# Altium footprint library Allwinner.PcbLib: 3 footprints
Each footprint in its own frame and in the unit in brackets; x right, y up, seen from the top. Pads: shape width x height; smd on the part's side, far side on the other; paste and mask are expansions set on the pad; w line width, h text height; cw(c..) or ccw(c..) is an arc to the next point about the centre after c.
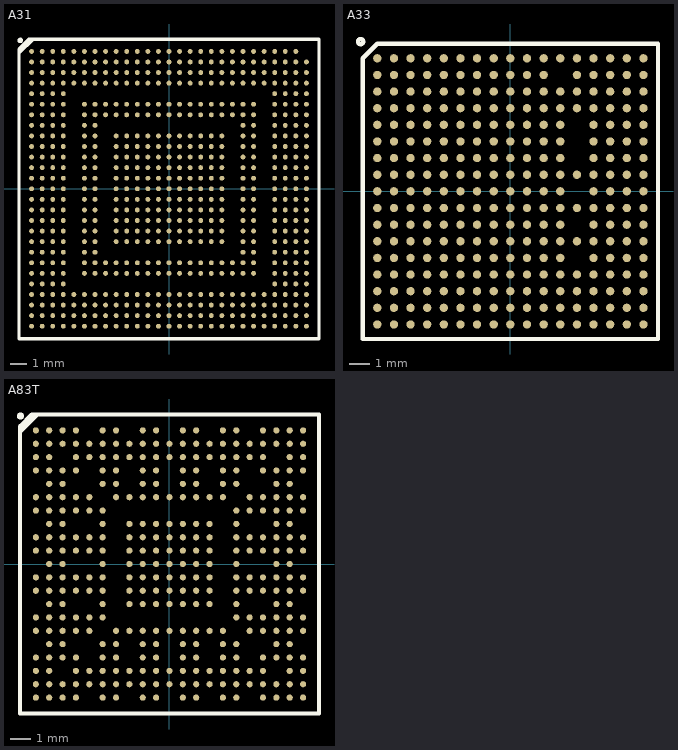
[diagram p0: the footprints below, top view; thin cyan lines are the x and y axes]

## A31 [mm]
pads (608):
  round 0.3 smd: A1(-8.45,8.45) A2(-7.8,8.45) A3(-7.15,8.45) A4(-6.5,8.45) A5(-5.85,8.45) A6(-5.2,8.45) A7(-4.55,8.45) A8(-3.9,8.45) A9(-3.25,8.45) A10(-2.6,8.45) A11(-1.95,8.45) A12(-1.3,8.45) A13(-0.65,8.45) A14(0,8.45) A15(0.65,8.45) A16(1.3,8.45) A17(1.95,8.45) A18(2.6,8.45) A19(3.25,8.45) A20(3.9,8.45) A21(4.55,8.45) A22(5.2,8.45) A23(5.85,8.45) A24(6.5,8.45) A25(7.15,8.45) A26(7.8,8.45) AA1(-8.45,-4.55) AA2(-7.8,-4.55) AA3(-7.15,-4.55) AA4(-6.5,-4.55) AA6(-5.2,-4.55) AA7(-4.55,-4.55) AA8(-3.9,-4.55) AA9(-3.25,-4.55) AA10(-2.6,-4.55) AA11(-1.95,-4.55) AA12(-1.3,-4.55) AA13(-0.65,-4.55) AA14(0,-4.55) AA15(0.65,-4.55) AA16(1.3,-4.55) AA17(1.95,-4.55) AA18(2.6,-4.55) AA19(3.25,-4.55) AA20(3.9,-4.55) AA21(4.55,-4.55) AA22(5.2,-4.55) AA24(6.5,-4.55) AA25(7.15,-4.55) AA26(7.8,-4.55) AA27(8.45,-4.55) AB1(-8.45,-5.2) AB2(-7.8,-5.2) AB3(-7.15,-5.2) AB4(-6.5,-5.2) AB6(-5.2,-5.2) AB7(-4.55,-5.2) AB8(-3.9,-5.2) AB9(-3.25,-5.2) AB10(-2.6,-5.2) AB11(-1.95,-5.2) AB12(-1.3,-5.2) AB13(-0.65,-5.2) AB14(0,-5.2) AB15(0.65,-5.2) AB16(1.3,-5.2) AB17(1.95,-5.2) AB18(2.6,-5.2) AB19(3.25,-5.2) AB20(3.9,-5.2) AB21(4.55,-5.2) AB22(5.2,-5.2) AB24(6.5,-5.2) AB25(7.15,-5.2) AB26(7.8,-5.2) AB27(8.45,-5.2) AC1(-8.45,-5.85) AC2(-7.8,-5.85) AC3(-7.15,-5.85) AC4(-6.5,-5.85) AC24(6.5,-5.85) AC25(7.15,-5.85) AC26(7.8,-5.85) AC27(8.45,-5.85) AD1(-8.45,-6.5) AD2(-7.8,-6.5) AD3(-7.15,-6.5) AD4(-6.5,-6.5) AD5(-5.85,-6.5) AD6(-5.2,-6.5) AD7(-4.55,-6.5) AD8(-3.9,-6.5) AD9(-3.25,-6.5) AD10(-2.6,-6.5) AD11(-1.95,-6.5) AD12(-1.3,-6.5) AD13(-0.65,-6.5) AD14(0,-6.5) AD15(0.65,-6.5) AD16(1.3,-6.5) AD17(1.95,-6.5) AD18(2.6,-6.5) AD19(3.25,-6.5) AD20(3.9,-6.5) AD21(4.55,-6.5) AD22(5.2,-6.5) AD23(5.85,-6.5) AD24(6.5,-6.5) AD25(7.15,-6.5) AD26(7.8,-6.5) AD27(8.45,-6.5) AE1(-8.45,-7.15) AE2(-7.8,-7.15) AE3(-7.15,-7.15) AE4(-6.5,-7.15) AE5(-5.85,-7.15) AE6(-5.2,-7.15) AE7(-4.55,-7.15) AE8(-3.9,-7.15) AE9(-3.25,-7.15) AE10(-2.6,-7.15) AE11(-1.95,-7.15) AE12(-1.3,-7.15) AE13(-0.65,-7.15) AE14(0,-7.15) AE15(0.65,-7.15) AE16(1.3,-7.15) AE17(1.95,-7.15) AE18(2.6,-7.15) AE19(3.25,-7.15) AE20(3.9,-7.15) AE21(4.55,-7.15) AE22(5.2,-7.15) AE23(5.85,-7.15) AE24(6.5,-7.15) AE25(7.15,-7.15) AE26(7.8,-7.15) AE27(8.45,-7.15) AF1(-8.45,-7.8) AF2(-7.8,-7.8) AF3(-7.15,-7.8) AF4(-6.5,-7.8) AF5(-5.85,-7.8) AF6(-5.2,-7.8) AF7(-4.55,-7.8) AF8(-3.9,-7.8) AF9(-3.25,-7.8) AF10(-2.6,-7.8) AF11(-1.95,-7.8) AF12(-1.3,-7.8) AF13(-0.65,-7.8) AF14(0,-7.8) AF15(0.65,-7.8) AF16(1.3,-7.8) AF17(1.95,-7.8) AF18(2.6,-7.8) AF19(3.25,-7.8) AF20(3.9,-7.8) AF21(4.55,-7.8) AF22(5.2,-7.8) AF23(5.85,-7.8) AF24(6.5,-7.8) AF25(7.15,-7.8) AF26(7.8,-7.8) AF27(8.45,-7.8) AG1(-8.45,-8.45) AG2(-7.8,-8.45) AG3(-7.15,-8.45) AG4(-6.5,-8.45) AG5(-5.85,-8.45) AG6(-5.2,-8.45) AG7(-4.55,-8.45) AG8(-3.9,-8.45) AG9(-3.25,-8.45) AG10(-2.6,-8.45) AG11(-1.95,-8.45) AG12(-1.3,-8.45) AG13(-0.65,-8.45) AG14(0,-8.45) AG15(0.65,-8.45) AG16(1.3,-8.45) AG17(1.95,-8.45) AG18(2.6,-8.45) AG19(3.25,-8.45) AG20(3.9,-8.45) AG21(4.55,-8.45) AG22(5.2,-8.45) AG23(5.85,-8.45) AG24(6.5,-8.45) AG25(7.15,-8.45) AG26(7.8,-8.45) AG27(8.45,-8.45) B1(-8.45,7.8) B2(-7.8,7.8) B3(-7.15,7.8) B4(-6.5,7.8) B5(-5.85,7.8) B6(-5.2,7.8) B7(-4.55,7.8) B8(-3.9,7.8) B9(-3.25,7.8) B10(-2.6,7.8) B11(-1.95,7.8) B12(-1.3,7.8) B13(-0.65,7.8) B14(0,7.8) B15(0.65,7.8) B16(1.3,7.8) B17(1.95,7.8) B18(2.6,7.8) B19(3.25,7.8) B20(3.9,7.8) B21(4.55,7.8) B22(5.2,7.8) B23(5.85,7.8) B24(6.5,7.8) B25(7.15,7.8) B26(7.8,7.8) B27(8.45,7.8) C1(-8.45,7.15) C2(-7.8,7.15) C3(-7.15,7.15) C4(-6.5,7.15) C5(-5.85,7.15) C6(-5.2,7.15) C7(-4.55,7.15) C8(-3.9,7.15) C9(-3.25,7.15) C10(-2.6,7.15) C11(-1.95,7.15) C12(-1.3,7.15) C13(-0.65,7.15) C14(0,7.15) C15(0.65,7.15) C16(1.3,7.15) C17(1.95,7.15) C18(2.6,7.15) C19(3.25,7.15) C20(3.9,7.15) C21(4.55,7.15) C22(5.2,7.15) C23(5.85,7.15) C24(6.5,7.15) C25(7.15,7.15) C26(7.8,7.15) C27(8.45,7.15) D1(-8.45,6.5) D2(-7.8,6.5) D3(-7.15,6.5) D4(-6.5,6.5) D5(-5.85,6.5) D6(-5.2,6.5) D7(-4.55,6.5) D8(-3.9,6.5) D9(-3.25,6.5) D10(-2.6,6.5) D11(-1.95,6.5) D12(-1.3,6.5) D13(-0.65,6.5) D14(0,6.5) D15(0.65,6.5) D16(1.3,6.5) D17(1.95,6.5) D18(2.6,6.5) D19(3.25,6.5) D20(3.9,6.5) D21(4.55,6.5) D22(5.2,6.5) D23(5.85,6.5) D24(6.5,6.5) D25(7.15,6.5) D26(7.8,6.5) D27(8.45,6.5) E1(-8.45,5.85) E2(-7.8,5.85) E3(-7.15,5.85) E4(-6.5,5.85) E24(6.5,5.85) E25(7.15,5.85) E26(7.8,5.85) E27(8.45,5.85) F1(-8.45,5.2) F2(-7.8,5.2) F3(-7.15,5.2) F4(-6.5,5.2) F6(-5.2,5.2) F7(-4.55,5.2) F8(-3.9,5.2) F9(-3.25,5.2) F10(-2.6,5.2) F11(-1.95,5.2) F12(-1.3,5.2) F13(-0.65,5.2) F14(0,5.2) F15(0.65,5.2) F16(1.3,5.2) F17(1.95,5.2) F18(2.6,5.2) F19(3.25,5.2) F20(3.9,5.2) F21(4.55,5.2) F22(5.2,5.2) F24(6.5,5.2) F25(7.15,5.2) F26(7.8,5.2) F27(8.45,5.2) G1(-8.45,4.55) G2(-7.8,4.55) G3(-7.15,4.55) G4(-6.5,4.55) G6(-5.2,4.55) G7(-4.55,4.55) G8(-3.9,4.55) G9(-3.25,4.55) G10(-2.6,4.55) G11(-1.95,4.55) G12(-1.3,4.55) G13(-0.65,4.55) G14(0,4.55) G15(0.65,4.55) G16(1.3,4.55) G17(1.95,4.55) G18(2.6,4.55) G19(3.25,4.55) G20(3.9,4.55) G21(4.55,4.55) G22(5.2,4.55) G24(6.5,4.55) G25(7.15,4.55) G26(7.8,4.55) G27(8.45,4.55) H1(-8.45,3.9) H2(-7.8,3.9) H3(-7.15,3.9) H4(-6.5,3.9) H6(-5.2,3.9) H7(-4.55,3.9) H21(4.55,3.9) H22(5.2,3.9) H24(6.5,3.9) H25(7.15,3.9) H26(7.8,3.9) H27(8.45,3.9) J1(-8.45,3.25) J2(-7.8,3.25) J3(-7.15,3.25) J4(-6.5,3.25) J6(-5.2,3.25) J7(-4.55,3.25) J9(-3.25,3.25) J10(-2.6,3.25) J11(-1.95,3.25) J12(-1.3,3.25) J13(-0.65,3.25) J14(0,3.25) J15(0.65,3.25) J16(1.3,3.25) J17(1.95,3.25) J18(2.6,3.25) J19(3.25,3.25) J21(4.55,3.25) J22(5.2,3.25) J24(6.5,3.25) J25(7.15,3.25) J26(7.8,3.25) J27(8.45,3.25) K1(-8.45,2.6) K2(-7.8,2.6) K3(-7.15,2.6) K4(-6.5,2.6) K6(-5.2,2.6) K7(-4.55,2.6) K9(-3.25,2.6) K10(-2.6,2.6) K11(-1.95,2.6) K12(-1.3,2.6) K13(-0.65,2.6) K14(0,2.6) K15(0.65,2.6) K16(1.3,2.6) K17(1.95,2.6) K18(2.6,2.6) K19(3.25,2.6) K21(4.55,2.6) K22(5.2,2.6) K24(6.5,2.6) K25(7.15,2.6) K26(7.8,2.6) K27(8.45,2.6) L1(-8.45,1.95) L2(-7.8,1.95) L3(-7.15,1.95) L4(-6.5,1.95) L6(-5.2,1.95) L7(-4.55,1.95) L9(-3.25,1.95) L10(-2.6,1.95) L11(-1.95,1.95) L12(-1.3,1.95) L13(-0.65,1.95) L14(0,1.95) L15(0.65,1.95) L16(1.3,1.95) L17(1.95,1.95) L18(2.6,1.95) L19(3.25,1.95) L21(4.55,1.95) L22(5.2,1.95) L24(6.5,1.95) L25(7.15,1.95) L26(7.8,1.95) L27(8.45,1.95) M1(-8.45,1.3) M2(-7.8,1.3) M3(-7.15,1.3) M4(-6.5,1.3) M6(-5.2,1.3) M7(-4.55,1.3) M9(-3.25,1.3) M10(-2.6,1.3) M11(-1.95,1.3) M12(-1.3,1.3) M13(-0.65,1.3) M14(0,1.3) M15(0.65,1.3) M16(1.3,1.3) M17(1.95,1.3) M18(2.6,1.3) M19(3.25,1.3) M21(4.55,1.3) M22(5.2,1.3) M24(6.5,1.3) M25(7.15,1.3) M26(7.8,1.3) M27(8.45,1.3) N1(-8.45,0.65) N2(-7.8,0.65) N3(-7.15,0.65) N4(-6.5,0.65) N6(-5.2,0.65) N7(-4.55,0.65) N9(-3.25,0.65) N10(-2.6,0.65) N11(-1.95,0.65) N12(-1.3,0.65) N13(-0.65,0.65) N14(0,0.65) N15(0.65,0.65) N16(1.3,0.65) N17(1.95,0.65) N18(2.6,0.65) N19(3.25,0.65) N21(4.55,0.65) N22(5.2,0.65) N24(6.5,0.65) N25(7.15,0.65) N26(7.8,0.65) N27(8.45,0.65) P1(-8.45,0) P2(-7.8,0) P3(-7.15,0) P4(-6.5,0) P6(-5.2,0) P7(-4.55,0) P9(-3.25,0) P10(-2.6,0) P11(-1.95,0) P12(-1.3,0) P13(-0.65,0) P14(0,0) P15(0.65,0) P16(1.3,0) P17(1.95,0) P18(2.6,0) P19(3.25,0) P21(4.55,0) P22(5.2,0) P24(6.5,0) P25(7.15,0) P26(7.8,0) P27(8.45,0) R1(-8.45,-0.65) R2(-7.8,-0.65) R3(-7.15,-0.65) R4(-6.5,-0.65) R6(-5.2,-0.65) R7(-4.55,-0.65) R9(-3.25,-0.65) R10(-2.6,-0.65) R11(-1.95,-0.65) R12(-1.3,-0.65) R13(-0.65,-0.65) R14(0,-0.65) R15(0.65,-0.65) R16(1.3,-0.65) R17(1.95,-0.65) R18(2.6,-0.65) R19(3.25,-0.65) R21(4.55,-0.65) R22(5.2,-0.65) R24(6.5,-0.65) R25(7.15,-0.65) R26(7.8,-0.65) R27(8.45,-0.65) T1(-8.45,-1.3) T2(-7.8,-1.3) T3(-7.15,-1.3) T4(-6.5,-1.3) T6(-5.2,-1.3) T7(-4.55,-1.3) T9(-3.25,-1.3) T10(-2.6,-1.3) T11(-1.95,-1.3) T12(-1.3,-1.3) T13(-0.65,-1.3) T14(0,-1.3) T15(0.65,-1.3) T16(1.3,-1.3) T17(1.95,-1.3) T18(2.6,-1.3) T19(3.25,-1.3) T21(4.55,-1.3) T22(5.2,-1.3) T24(6.5,-1.3) T25(7.15,-1.3) T26(7.8,-1.3) T27(8.45,-1.3) U1(-8.45,-1.95) U2(-7.8,-1.95) U3(-7.15,-1.95) U4(-6.5,-1.95) U6(-5.2,-1.95) U7(-4.55,-1.95) U9(-3.25,-1.95) U10(-2.6,-1.95) U11(-1.95,-1.95) U12(-1.3,-1.95) U13(-0.65,-1.95) U14(0,-1.95) U15(0.65,-1.95) U16(1.3,-1.95) U17(1.95,-1.95) U18(2.6,-1.95) U19(3.25,-1.95) U21(4.55,-1.95) U22(5.2,-1.95) U24(6.5,-1.95) U25(7.15,-1.95) U26(7.8,-1.95) U27(8.45,-1.95) V1(-8.45,-2.6) V2(-7.8,-2.6) V3(-7.15,-2.6) V4(-6.5,-2.6) V6(-5.2,-2.6) V7(-4.55,-2.6) V9(-3.25,-2.6) V10(-2.6,-2.6) V11(-1.95,-2.6) V12(-1.3,-2.6) V13(-0.65,-2.6) V14(0,-2.6) V15(0.65,-2.6) V16(1.3,-2.6) V17(1.95,-2.6) V18(2.6,-2.6) V19(3.25,-2.6) V21(4.55,-2.6) V22(5.2,-2.6) V24(6.5,-2.6) V25(7.15,-2.6) V26(7.8,-2.6) V27(8.45,-2.6) W1(-8.45,-3.25) W2(-7.8,-3.25) W3(-7.15,-3.25) W4(-6.5,-3.25) W6(-5.2,-3.25) W7(-4.55,-3.25) W9(-3.25,-3.25) W10(-2.6,-3.25) W11(-1.95,-3.25) W12(-1.3,-3.25) W13(-0.65,-3.25) W14(0,-3.25) W15(0.65,-3.25) W16(1.3,-3.25) W17(1.95,-3.25) W18(2.6,-3.25) W19(3.25,-3.25) W21(4.55,-3.25) W22(5.2,-3.25) W24(6.5,-3.25) W25(7.15,-3.25) W26(7.8,-3.25) W27(8.45,-3.25) Y1(-8.45,-3.9) Y2(-7.8,-3.9) Y3(-7.15,-3.9) Y4(-6.5,-3.9) Y6(-5.2,-3.9) Y7(-4.55,-3.9) Y21(4.55,-3.9) Y22(5.2,-3.9) Y24(6.5,-3.9) Y25(7.15,-3.9) Y26(7.8,-3.9) Y27(8.45,-3.9)
Top Overlay:
  circle w0.2: c-9.15,9.125 r0.071
  lines w0.2: -9.225,8.6 -9.225,-9.225 9.225,-9.225 9.225,9.2 -8.625,9.2 -9.2,8.625 ; -9.2,8.35 -8.35,9.2
3D body: height 1.2, standoff 0, extent -9.1,-9.1 9.1,9.1

## A33 [mm]
pads (282):
  round 0.4 smd: A1(-6.4,6.4) A2(-5.6,6.4) A3(-4.8,6.4) A4(-4,6.4) A5(-3.2,6.4) A6(-2.4,6.4) A7(-1.6,6.4) A8(-0.8,6.4) A9(0,6.4) A10(0.8,6.4) A11(1.6,6.4) A12(2.4,6.4) A13(3.2,6.4) A14(4,6.4) A15(4.8,6.4) A16(5.6,6.4) A17(6.4,6.4) B1(-6.4,5.6) B2(-5.6,5.6) B3(-4.8,5.6) B4(-4,5.6) B5(-3.2,5.6) B6(-2.4,5.6) B7(-1.6,5.6) B8(-0.8,5.6) B9(0,5.6) B10(0.8,5.6) B11(1.6,5.6) B13(3.2,5.6) B14(4,5.6) B15(4.8,5.6) B16(5.6,5.6) B17(6.4,5.6) C1(-6.4,4.8) C2(-5.6,4.8) C3(-4.8,4.8) C4(-4,4.8) C5(-3.2,4.8) C6(-2.4,4.8) C7(-1.6,4.8) C8(-0.8,4.8) C9(0,4.8) C10(0.8,4.8) C11(1.6,4.8) C12(2.4,4.8) C13(3.2,4.8) C14(4,4.8) C15(4.8,4.8) C16(5.6,4.8) C17(6.4,4.8) D1(-6.4,4) D2(-5.6,4) D3(-4.8,4) D4(-4,4) D5(-3.2,4) D6(-2.4,4) D7(-1.6,4) D8(-0.8,4) D9(0,4) D10(0.8,4) D11(1.6,4) D12(2.4,4) D13(3.2,4) D14(4,4) D15(4.8,4) D16(5.6,4) D17(6.4,4) E1(-6.4,3.2) E2(-5.6,3.2) E3(-4.8,3.2) E4(-4,3.2) E5(-3.2,3.2) E6(-2.4,3.2) E7(-1.6,3.2) E8(-0.8,3.2) E9(0,3.2) E10(0.8,3.2) E11(1.6,3.2) E12(2.4,3.2) E14(4,3.2) E15(4.8,3.2) E16(5.6,3.2) E17(6.4,3.2) F1(-6.4,2.4) F2(-5.6,2.4) F3(-4.8,2.4) F4(-4,2.4) F5(-3.2,2.4) F6(-2.4,2.4) F7(-1.6,2.4) F8(-0.8,2.4) F9(0,2.4) F10(0.8,2.4) F11(1.6,2.4) F12(2.4,2.4) F14(4,2.4) F15(4.8,2.4) F16(5.6,2.4) F17(6.4,2.4) G1(-6.4,1.6) G2(-5.6,1.6) G3(-4.8,1.6) G4(-4,1.6) G5(-3.2,1.6) G6(-2.4,1.6) G7(-1.6,1.6) G8(-0.8,1.6) G9(0,1.6) G10(0.8,1.6) G11(1.6,1.6) G12(2.4,1.6) G14(4,1.6) G15(4.8,1.6) G16(5.6,1.6) G17(6.4,1.6) H1(-6.4,0.8) H2(-5.6,0.8) H3(-4.8,0.8) H4(-4,0.8) H5(-3.2,0.8) H6(-2.4,0.8) H7(-1.6,0.8) H8(-0.8,0.8) H9(0,0.8) H10(0.8,0.8) H11(1.6,0.8) H12(2.4,0.8) H13(3.2,0.8) H14(4,0.8) H15(4.8,0.8) H16(5.6,0.8) H17(6.4,0.8) J1(-6.4,0) J2(-5.6,0) J3(-4.8,0) J4(-4,0) J5(-3.2,0) J6(-2.4,0) J7(-1.6,0) J8(-0.8,0) J9(0,0) J10(0.8,0) J11(1.6,0) J12(2.4,0) J14(4,0) J15(4.8,0) J16(5.6,0) J17(6.4,0) K1(-6.4,-0.8) K2(-5.6,-0.8) K3(-4.8,-0.8) K4(-4,-0.8) K5(-3.2,-0.8) K6(-2.4,-0.8) K7(-1.6,-0.8) K8(-0.8,-0.8) K9(0,-0.8) K10(0.8,-0.8) K11(1.6,-0.8) K12(2.4,-0.8) K13(3.2,-0.8) K14(4,-0.8) K15(4.8,-0.8) K16(5.6,-0.8) K17(6.4,-0.8) L1(-6.4,-1.6) L2(-5.6,-1.6) L3(-4.8,-1.6) L4(-4,-1.6) L5(-3.2,-1.6) L6(-2.4,-1.6) L7(-1.6,-1.6) L8(-0.8,-1.6) L9(0,-1.6) L10(0.8,-1.6) L11(1.6,-1.6) L12(2.4,-1.6) L14(4,-1.6) L15(4.8,-1.6) L16(5.6,-1.6) L17(6.4,-1.6) M1(-6.4,-2.4) M2(-5.6,-2.4) M3(-4.8,-2.4) M4(-4,-2.4) M5(-3.2,-2.4) M6(-2.4,-2.4) M7(-1.6,-2.4) M8(-0.8,-2.4) M9(0,-2.4) M10(0.8,-2.4) M11(1.6,-2.4) M12(2.4,-2.4) M13(3.2,-2.4) M14(4,-2.4) M15(4.8,-2.4) M16(5.6,-2.4) M17(6.4,-2.4) N1(-6.4,-3.2) N2(-5.6,-3.2) N3(-4.8,-3.2) N4(-4,-3.2) N5(-3.2,-3.2) N6(-2.4,-3.2) N7(-1.6,-3.2) N8(-0.8,-3.2) N9(0,-3.2) N10(0.8,-3.2) N11(1.6,-3.2) N12(2.4,-3.2) N14(4,-3.2) N15(4.8,-3.2) N16(5.6,-3.2) N17(6.4,-3.2) P1(-6.4,-4) P2(-5.6,-4) P3(-4.8,-4) P4(-4,-4) P5(-3.2,-4) P6(-2.4,-4) P7(-1.6,-4) P8(-0.8,-4) P9(0,-4) P10(0.8,-4) P11(1.6,-4) P12(2.4,-4) P13(3.2,-4) P14(4,-4) P15(4.8,-4) P16(5.6,-4) P17(6.4,-4) R1(-6.4,-4.8) R2(-5.6,-4.8) R3(-4.8,-4.8) R4(-4,-4.8) R5(-3.2,-4.8) R6(-2.4,-4.8) R7(-1.6,-4.8) R8(-0.8,-4.8) R9(0,-4.8) R10(0.8,-4.8) R11(1.6,-4.8) R12(2.4,-4.8) R13(3.2,-4.8) R14(4,-4.8) R15(4.8,-4.8) R16(5.6,-4.8) R17(6.4,-4.8) T1(-6.4,-5.6) T2(-5.6,-5.6) T3(-4.8,-5.6) T4(-4,-5.6) T5(-3.2,-5.6) T6(-2.4,-5.6) T7(-1.6,-5.6) T8(-0.8,-5.6) T9(0,-5.6) T10(0.8,-5.6) T11(1.6,-5.6) T12(2.4,-5.6) T13(3.2,-5.6) T14(4,-5.6) T15(4.8,-5.6) T16(5.6,-5.6) T17(6.4,-5.6) U1(-6.4,-6.4) U2(-5.6,-6.4) U3(-4.8,-6.4) U4(-4,-6.4) U5(-3.2,-6.4) U6(-2.4,-6.4) U7(-1.6,-6.4) U8(-0.8,-6.4) U9(0,-6.4) U10(0.8,-6.4) U11(1.6,-6.4) U12(2.4,-6.4) U13(3.2,-6.4) U14(4,-6.4) U15(4.8,-6.4) U16(5.6,-6.4) U17(6.4,-6.4)
Top Overlay:
  circle w0.2: c-7.2,7.2 r0.127
  lines w0.2: -7.1,-7.1 7.1,-7.1 7.1,7.1 -6.4,7.1 -7.1,6.4 -7.1,-7.1
3D body: height 1.29, standoff 0, extent -7,-7 7,7

## A83T [mm]
pads (345):
  round 0.3 smd: A1(-6.5,6.5) A2(-5.85,6.5) A3(-5.2,6.5) A4(-4.55,6.5) A6(-3.25,6.5) A7(-2.6,6.5) A9(-1.3,6.5) A10(-0.65,6.5) A12(0.65,6.5) A13(1.3,6.5) A15(2.6,6.5) A16(3.25,6.5) A18(4.55,6.5) A19(5.2,6.5) A20(5.85,6.5) A21(6.5,6.5) AA1(-6.5,-6.5) AA2(-5.85,-6.5) AA3(-5.2,-6.5) AA4(-4.55,-6.5) AA6(-3.25,-6.5) AA7(-2.6,-6.5) AA9(-1.3,-6.5) AA10(-0.65,-6.5) AA12(0.65,-6.5) AA13(1.3,-6.5) AA15(2.6,-6.5) AA16(3.25,-6.5) AA18(4.55,-6.5) AA19(5.2,-6.5) AA20(5.85,-6.5) AA21(6.5,-6.5) B1(-6.5,5.85) B2(-5.85,5.85) B3(-5.2,5.85) B4(-4.55,5.85) B5(-3.9,5.85) B6(-3.25,5.85) B7(-2.6,5.85) B8(-1.95,5.85) B9(-1.3,5.85) B10(-0.65,5.85) B11(0,5.85) B12(0.65,5.85) B13(1.3,5.85) B14(1.95,5.85) B15(2.6,5.85) B16(3.25,5.85) B17(3.9,5.85) B18(4.55,5.85) B19(5.2,5.85) B20(5.85,5.85) B21(6.5,5.85) C1(-6.5,5.2) C2(-5.85,5.2) C4(-4.55,5.2) C5(-3.9,5.2) C6(-3.25,5.2) C7(-2.6,5.2) C8(-1.95,5.2) C9(-1.3,5.2) C10(-0.65,5.2) C11(0,5.2) C12(0.65,5.2) C13(1.3,5.2) C14(1.95,5.2) C15(2.6,5.2) C16(3.25,5.2) C17(3.9,5.2) C18(4.55,5.2) C20(5.85,5.2) C21(6.5,5.2) D1(-6.5,4.55) D2(-5.85,4.55) D3(-5.2,4.55) D4(-4.55,4.55) D6(-3.25,4.55) D7(-2.6,4.55) D9(-1.3,4.55) D10(-0.65,4.55) D12(0.65,4.55) D13(1.3,4.55) D15(2.6,4.55) D16(3.25,4.55) D18(4.55,4.55) D19(5.2,4.55) D20(5.85,4.55) D21(6.5,4.55) E2(-5.85,3.9) E3(-5.2,3.9) E6(-3.25,3.9) E7(-2.6,3.9) E9(-1.3,3.9) E10(-0.65,3.9) E12(0.65,3.9) E13(1.3,3.9) E15(2.6,3.9) E16(3.25,3.9) E19(5.2,3.9) E20(5.85,3.9) F1(-6.5,3.25) F2(-5.85,3.25) F3(-5.2,3.25) F4(-4.55,3.25) F5(-3.9,3.25) F7(-2.6,3.25) F8(-1.95,3.25) F9(-1.3,3.25) F10(-0.65,3.25) F11(0,3.25) F12(0.65,3.25) F13(1.3,3.25) F14(1.95,3.25) F15(2.6,3.25) F17(3.9,3.25) F18(4.55,3.25) F19(5.2,3.25) F20(5.85,3.25) F21(6.5,3.25) G1(-6.5,2.6) G2(-5.85,2.6) G3(-5.2,2.6) G4(-4.55,2.6) G5(-3.9,2.6) G6(-3.25,2.6) G16(3.25,2.6) G17(3.9,2.6) G18(4.55,2.6) G19(5.2,2.6) G20(5.85,2.6) G21(6.5,2.6) H2(-5.85,1.95) H3(-5.2,1.95) H6(-3.25,1.95) H8(-1.95,1.95) H9(-1.3,1.95) H10(-0.65,1.95) H11(0,1.95) H12(0.65,1.95) H13(1.3,1.95) H14(1.95,1.95) H16(3.25,1.95) H19(5.2,1.95) H20(5.85,1.95) J1(-6.5,1.3) J2(-5.85,1.3) J3(-5.2,1.3) J4(-4.55,1.3) J5(-3.9,1.3) J6(-3.25,1.3) J8(-1.95,1.3) J9(-1.3,1.3) J10(-0.65,1.3) J11(0,1.3) J12(0.65,1.3) J13(1.3,1.3) J14(1.95,1.3) J16(3.25,1.3) J17(3.9,1.3) J18(4.55,1.3) J19(5.2,1.3) J20(5.85,1.3) J21(6.5,1.3) K1(-6.5,0.65) K2(-5.85,0.65) K3(-5.2,0.65) K4(-4.55,0.65) K5(-3.9,0.65) K6(-3.25,0.65) K8(-1.95,0.65) K9(-1.3,0.65) K10(-0.65,0.65) K11(0,0.65) K12(0.65,0.65) K13(1.3,0.65) K14(1.95,0.65) K16(3.25,0.65) K17(3.9,0.65) K18(4.55,0.65) K19(5.2,0.65) K20(5.85,0.65) K21(6.5,0.65) L2(-5.85,0) L3(-5.2,0) L6(-3.25,0) L8(-1.95,0) L9(-1.3,0) L10(-0.65,0) L11(0,0) L12(0.65,0) L13(1.3,0) L14(1.95,0) L16(3.25,0) L19(5.2,0) L20(5.85,0) M1(-6.5,-0.65) M2(-5.85,-0.65) M3(-5.2,-0.65) M4(-4.55,-0.65) M5(-3.9,-0.65) M6(-3.25,-0.65) M8(-1.95,-0.65) M9(-1.3,-0.65) M10(-0.65,-0.65) M11(0,-0.65) M12(0.65,-0.65) M13(1.3,-0.65) M14(1.95,-0.65) M16(3.25,-0.65) M17(3.9,-0.65) M18(4.55,-0.65) M19(5.2,-0.65) M20(5.85,-0.65) M21(6.5,-0.65) N1(-6.5,-1.3) N2(-5.85,-1.3) N3(-5.2,-1.3) N4(-4.55,-1.3) N5(-3.9,-1.3) N6(-3.25,-1.3) N8(-1.95,-1.3) N9(-1.3,-1.3) N10(-0.65,-1.3) N11(0,-1.3) N12(0.65,-1.3) N13(1.3,-1.3) N14(1.95,-1.3) N16(3.25,-1.3) N17(3.9,-1.3) N18(4.55,-1.3) N19(5.2,-1.3) N20(5.85,-1.3) N21(6.5,-1.3) P2(-5.85,-1.95) P3(-5.2,-1.95) P6(-3.25,-1.95) P8(-1.95,-1.95) P9(-1.3,-1.95) P10(-0.65,-1.95) P11(0,-1.95) P12(0.65,-1.95) P13(1.3,-1.95) P14(1.95,-1.95) P16(3.25,-1.95) P19(5.2,-1.95) P20(5.85,-1.95) R1(-6.5,-2.6) R2(-5.85,-2.6) R3(-5.2,-2.6) R4(-4.55,-2.6) R5(-3.9,-2.6) R6(-3.25,-2.6) R16(3.25,-2.6) R17(3.9,-2.6) R18(4.55,-2.6) R19(5.2,-2.6) R20(5.85,-2.6) R21(6.5,-2.6) T1(-6.5,-3.25) T2(-5.85,-3.25) T3(-5.2,-3.25) T4(-4.55,-3.25) T5(-3.9,-3.25) T7(-2.6,-3.25) T8(-1.95,-3.25) T9(-1.3,-3.25) T10(-0.65,-3.25) T11(0,-3.25) T12(0.65,-3.25) T13(1.3,-3.25) T14(1.95,-3.25) T15(2.6,-3.25) T17(3.9,-3.25) T18(4.55,-3.25) T19(5.2,-3.25) T20(5.85,-3.25) T21(6.5,-3.25) U2(-5.85,-3.9) U3(-5.2,-3.9) U6(-3.25,-3.9) U7(-2.6,-3.9) U9(-1.3,-3.9) U10(-0.65,-3.9) U12(0.65,-3.9) U13(1.3,-3.9) U15(2.6,-3.9) U16(3.25,-3.9) U19(5.2,-3.9) U20(5.85,-3.9) V1(-6.5,-4.55) V2(-5.85,-4.55) V3(-5.2,-4.55) V4(-4.55,-4.55) V6(-3.25,-4.55) V7(-2.6,-4.55) V9(-1.3,-4.55) V10(-0.65,-4.55) V12(0.65,-4.55) V13(1.3,-4.55) V15(2.6,-4.55) V16(3.25,-4.55) V18(4.55,-4.55) V19(5.2,-4.55) V20(5.85,-4.55) V21(6.5,-4.55) W1(-6.5,-5.2) W2(-5.85,-5.2) W4(-4.55,-5.2) W5(-3.9,-5.2) W6(-3.25,-5.2) W7(-2.6,-5.2) W8(-1.95,-5.2) W9(-1.3,-5.2) W10(-0.65,-5.2) W11(0,-5.2) W12(0.65,-5.2) W13(1.3,-5.2) W14(1.95,-5.2) W15(2.6,-5.2) W16(3.25,-5.2) W17(3.9,-5.2) W18(4.55,-5.2) W20(5.85,-5.2) W21(6.5,-5.2) Y1(-6.5,-5.85) Y2(-5.85,-5.85) Y3(-5.2,-5.85) Y4(-4.55,-5.85) Y5(-3.9,-5.85) Y6(-3.25,-5.85) Y7(-2.6,-5.85) Y8(-1.95,-5.85) Y9(-1.3,-5.85) Y10(-0.65,-5.85) Y11(0,-5.85) Y12(0.65,-5.85) Y13(1.3,-5.85) Y14(1.95,-5.85) Y15(2.6,-5.85) Y16(3.25,-5.85) Y17(3.9,-5.85) Y18(4.55,-5.85) Y19(5.2,-5.85) Y20(5.85,-5.85) Y21(6.5,-5.85)
Top Overlay:
  circle w0.2: c-7.25,7.2 r0.071
  lines w0.2: -7.275,6.425 -6.425,7.275 ; -7.275,-7.275 -7.275,6.7 -6.7,7.275 7.275,7.275 7.275,-7.275 -7.275,-7.275
3D body: height 1, standoff 0, extent -7.15,-7.15 7.15,7.15